# Altium footprint library PlateCutouts_OldMoney.PcbLib: 27 footprints (part 3 of 3)
Each footprint in its own frame and in the unit in brackets; x right, y up, seen from the top. Pads: shape width x height; smd on the part's side, far side on the other; paste and mask are expansions set on the pad; w line width, h text height; cw(c..) or ccw(c..) is an arc to the next point about the centre after c.
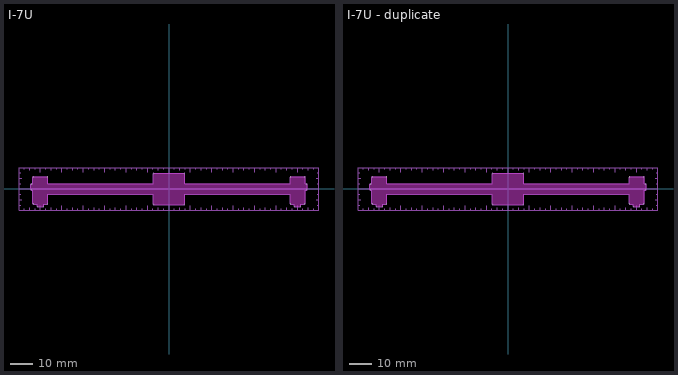
[diagram p2: the footprints below, top view; thin cyan lines are the x and y axes]

## I-7U [mm] "Imperial Sizing"
pads (20):
  round 0.1 hole 0.4 unplated: 27(-61.175,-0.295) 27(-61.17,2.1) 27(-60.275,-6.565) 27(-60.27,5.33) 27(-58.45,-7.765) 27(-55.855,-7.77) 27(-54.03,-6.57) 27(-54.025,5.325) 27(-6.8,-6.795) 27(-6.795,6.8) 27(6.795,6.8) 27(6.8,-6.795) 27(54.025,5.325) 27(54.03,-6.57) 27(55.855,-7.77) 27(58.45,-7.765) 27(60.27,5.33) 27(60.275,-6.565) 27(61.17,2.1) 27(61.175,-0.295)
Keep-Out Layer:
  drawing of 1 lines, arcs and shapes, not listed
Board Outline:
  lines w0.1: -61.375,-0.3 ccw(c-61.175,-0.3) -61.175,-0.5 -60.475,-0.5 -60.475,-6.57 ccw(c-60.275,-6.57) -60.275,-6.77 -58.65,-6.77 -58.65,-7.77 ccw(c-58.45,-7.77) -58.45,-7.97 -55.85,-7.97 ccw(c-55.85,-7.77) -55.65,-7.77 -55.65,-6.77 -54.025,-6.77 ccw(c-54.025,-6.57) -53.825,-6.57 -53.825,-2.3 -7,-2.3 -7,-6.8 ccw(c-6.8,-6.8) -6.8,-7 6.8,-7 ccw(c6.8,-6.8) 7,-6.8 7,-2.3 53.825,-2.3 53.825,-6.57 ccw(c54.025,-6.57) 54.025,-6.77 55.65,-6.77 55.65,-7.77 ccw(c55.85,-7.77) 55.85,-7.97 58.45,-7.97 ccw(c58.45,-7.77) 58.65,-7.77 58.65,-6.77 60.275,-6.77 ccw(c60.275,-6.57) 60.475,-6.57 60.475,-0.5 61.175,-0.5 ccw(c61.175,-0.3) 61.375,-0.3 61.375,2.1 ccw(c61.175,2.1) 61.175,2.3 60.475,2.3 60.475,5.33 ccw(c60.275,5.33) 60.275,5.53 54.025,5.53 ccw(c54.025,5.33) 53.825,5.33 53.825,2.3 7,2.3 7,6.8 ccw(c6.8,6.8) 6.8,7 -6.8,7 ccw(c-6.8,6.8) -7,6.8 -7,2.3 -53.825,2.3 -53.825,5.33 ccw(c-54.025,5.33) -54.025,5.53 -60.275,5.53 ccw(c-60.275,5.33) -60.475,5.33 -60.475,2.3 -61.175,2.3 ccw(c-61.175,2.1) -61.375,2.1 -61.375,-0.3
  text "Cut Out" at -2.915,-6.117 h1
  text "Cut Out" at 6.009,-2.91 h1
  text "Cut Out" at 2.802,6.014 h1
  text "Cut Out" at -6.122,2.807 h1
Layout + Dimensions:
  lines w0.1: -66.675,-7.425 -66.675,2.375 ; -66.675,-7.144 -65.888,-7.144 ; -66.675,-4.763 -65.405,-4.763 ; -66.675,-2.381 -65.888,-2.381 ; -66.675,0 -0.375,0 ; -66.675,2.381 -65.888,2.381 ; -66.675,4.762 -65.405,4.762 ; -66.675,7.144 -65.888,7.144 ; -64.294,-9.525 -64.294,-8.738 ; -64.294,8.738 -64.294,9.525 ; -61.912,-9.525 -61.912,-8.255 ; -61.912,8.255 -61.912,9.525 ; -59.531,-9.525 -59.531,-8.738 ; -59.531,8.738 -59.531,9.525 ; -57.15,-9.5 -57.15,-7.5 ; -57.15,7.5 -57.15,9.5 ; -57.125,0 -55.125,0 ; -54.769,-9.525 -54.769,-8.738 ; -54.769,8.738 -54.769,9.525 ; -52.387,-9.525 -52.387,-8.255 ; -52.387,8.255 -52.387,9.525 ; -50.006,-9.525 -50.006,-8.738 ; -50.006,8.738 -50.006,9.525 ; -47.625,-9.5 -47.625,-7.5 ; -47.625,7.5 -47.625,9.5 ; -45.244,-9.525 -45.244,-8.738 ; -45.244,8.738 -45.244,9.525 ; -42.862,-9.525 -42.862,-8.255 ; -42.862,8.255 -42.862,9.525 ; -40.481,-9.525 -40.481,-8.738 ; -40.481,8.738 -40.481,9.525 ; -38.1,-7.525 -38.1,-9.525 ; -38.1,7.525 -38.1,9.525 ; -35.719,-9.525 -35.719,-8.738 ; -35.719,8.738 -35.719,9.525 ; -33.337,-9.525 -33.337,-8.255 ; -33.337,8.255 -33.337,9.525 ; -30.956,-9.525 -30.956,-8.738 ; -30.956,8.738 -30.956,9.525 ; -28.575,-9.5 -28.575,-7.5 ; -28.575,7.5 -28.575,9.5 ; -26.194,-9.525 -26.194,-8.738 ; -26.194,8.738 -26.194,9.525 ; -23.812,-9.525 -23.812,-8.255 ; -23.812,8.255 -23.812,9.525 ; -21.431,-9.525 -21.431,-8.738 ; -21.431,8.738 -21.431,9.525 ; -19.05,-7.525 -19.05,-9.525 ; -19.05,7.525 -19.05,9.525 ; -16.669,-9.525 -16.669,-8.738 ; -16.669,8.738 -16.669,9.525 ; -14.287,-9.525 -14.287,-8.255 ; -14.287,8.255 -14.287,9.525 ; -11.906,-9.525 -11.906,-8.738 ; -11.906,8.738 -11.906,9.525 ; -9.525,-9.5 -9.525,-7.5 ; -9.525,7.5 -9.525,9.525 ; -7.144,-9.525 -7.144,-8.738 ; -7.144,8.738 -7.144,9.525 ; -4.763,-9.525 -4.763,-8.255 ; -4.763,8.255 -4.763,9.525 ; -2.381,-9.525 -2.381,-8.738 ; -2.381,8.738 -2.381,9.525 ; 0,-7.25 0,-9.525 ; 0,7.25 0,9.525 ; 0.375,0 66.675,0 ; 2.381,-9.525 2.381,-8.738 ; 2.381,8.738 2.381,9.525 ; 4.763,-9.525 4.763,-8.255 ; 4.763,8.255 4.763,9.525 ; 7.144,-9.525 7.144,-8.738 ; 7.144,8.738 7.144,9.525 ; 9.525,-9.5 9.525,-7.5 ; 9.525,7.5 9.525,9.525 ; 11.906,-9.525 11.906,-8.738 ; 11.906,8.738 11.906,9.525 ; 14.287,-9.525 14.287,-8.255 ; 14.287,8.255 14.287,9.525 ; 16.669,-9.525 16.669,-8.738 ; 16.669,8.738 16.669,9.525 ; 19.05,-7.525 19.05,-9.525 ; 19.05,7.525 19.05,9.525 ; 21.431,-9.525 21.431,-8.738 ; 21.431,8.738 21.431,9.525 ; 23.812,-9.525 23.812,-8.255 ; 23.812,8.255 23.812,9.525 ; 26.194,-9.525 26.194,-8.738 ; 26.194,8.738 26.194,9.525 ; 28.575,-9.5 28.575,-7.5 ; 28.575,7.5 28.575,9.5 ; 30.956,-9.525 30.956,-8.738 ; 30.956,8.738 30.956,9.525 ; 33.337,-9.525 33.337,-8.255 ; 33.337,8.255 33.337,9.525 ; 35.719,-9.525 35.719,-8.738 ; 35.719,8.738 35.719,9.525 ; 38.1,-7.525 38.1,-9.525 ; 38.1,7.525 38.1,9.525 ; 40.481,-9.525 40.481,-8.738 ; 40.481,8.738 40.481,9.525 ; 42.862,-9.525 42.862,-8.255 ; 42.862,8.255 42.862,9.525 ; 45.244,-9.525 45.244,-8.738 ; 45.244,8.738 45.244,9.525 ; 47.625,-9.5 47.625,-7.5 ; 47.625,7.5 47.625,9.5 ; 50.006,-9.525 50.006,-8.738 ; 50.006,8.738 50.006,9.525 ; 52.387,-9.525 52.387,-8.255 ; 52.387,8.255 52.387,9.525 ; 54.769,-9.525 54.769,-8.738 ; 54.769,8.738 54.769,9.525 ; 55.125,0 57.125,0 ; 57.15,-9.5 57.15,-7.5 ; 57.15,7.5 57.15,9.5 ; 59.531,-9.525 59.531,-8.738 ; 59.531,8.738 59.531,9.525 ; 61.912,-9.525 61.912,-8.255 ; 61.912,8.255 61.912,9.525 ; 64.294,-9.525 64.294,-8.738 ; 64.294,8.738 64.294,9.525 ; 65.405,-4.763 66.675,-4.763 ; 65.405,4.762 66.675,4.762 ; 65.888,-7.144 66.675,-7.144 ; 65.888,-2.381 66.675,-2.381 ; 65.888,2.381 66.675,2.381 ; 65.888,7.144 66.675,7.144 ; 66.675,-2.375 66.675,7.425 ; 66.675,7.5 66.675,9.525 ; -38.1,-9.525 -19.05,-9.525 ; -38.1,-9.525 -66.675,-9.525 -66.675,9.525 -38.1,9.525 ; -38.1,9.525 -19.05,9.525 ; -19.05,-9.525 0,-9.525 ; -19.05,9.525 0,9.525 ; 0,-9.525 19.05,-9.525 ; 0,9.525 19.05,9.525 ; 19.05,-9.525 38.1,-9.525 ; 19.05,9.525 38.1,9.525 ; 38.1,-9.525 66.675,-9.525 66.675,9.525 ; 38.1,9.525 66.675,9.525

## I-7U - duplicate [mm] "Imperial Sizing"
pads (20):
  round 0.1 hole 0.4 unplated: 27(-61.175,-0.295) 27(-61.17,2.1) 27(-60.275,-6.565) 27(-60.27,5.33) 27(-58.45,-7.765) 27(-55.855,-7.77) 27(-54.03,-6.57) 27(-54.025,5.325) 27(-6.8,-6.795) 27(-6.795,6.8) 27(6.795,6.8) 27(6.8,-6.795) 27(54.025,5.325) 27(54.03,-6.57) 27(55.855,-7.77) 27(58.45,-7.765) 27(60.27,5.33) 27(60.275,-6.565) 27(61.17,2.1) 27(61.175,-0.295)
Keep-Out Layer:
  drawing of 1 lines, arcs and shapes, not listed
Board Outline:
  lines w0.1: -61.375,-0.3 ccw(c-61.175,-0.3) -61.175,-0.5 -60.475,-0.5 -60.475,-6.57 ccw(c-60.275,-6.57) -60.275,-6.77 -58.65,-6.77 -58.65,-7.77 ccw(c-58.45,-7.77) -58.45,-7.97 -55.85,-7.97 ccw(c-55.85,-7.77) -55.65,-7.77 -55.65,-6.77 -54.025,-6.77 ccw(c-54.025,-6.57) -53.825,-6.57 -53.825,-2.3 -7,-2.3 -7,-6.8 ccw(c-6.8,-6.8) -6.8,-7 6.8,-7 ccw(c6.8,-6.8) 7,-6.8 7,-2.3 53.825,-2.3 53.825,-6.57 ccw(c54.025,-6.57) 54.025,-6.77 55.65,-6.77 55.65,-7.77 ccw(c55.85,-7.77) 55.85,-7.97 58.45,-7.97 ccw(c58.45,-7.77) 58.65,-7.77 58.65,-6.77 60.275,-6.77 ccw(c60.275,-6.57) 60.475,-6.57 60.475,-0.5 61.175,-0.5 ccw(c61.175,-0.3) 61.375,-0.3 61.375,2.1 ccw(c61.175,2.1) 61.175,2.3 60.475,2.3 60.475,5.33 ccw(c60.275,5.33) 60.275,5.53 54.025,5.53 ccw(c54.025,5.33) 53.825,5.33 53.825,2.3 7,2.3 7,6.8 ccw(c6.8,6.8) 6.8,7 -6.8,7 ccw(c-6.8,6.8) -7,6.8 -7,2.3 -53.825,2.3 -53.825,5.33 ccw(c-54.025,5.33) -54.025,5.53 -60.275,5.53 ccw(c-60.275,5.33) -60.475,5.33 -60.475,2.3 -61.175,2.3 ccw(c-61.175,2.1) -61.375,2.1 -61.375,-0.3
  text "Cut Out" at -2.915,-6.117 h1
  text "Cut Out" at 6.009,-2.91 h1
  text "Cut Out" at 2.802,6.014 h1
  text "Cut Out" at -6.122,2.807 h1
Layout + Dimensions:
  lines w0.1: -66.675,-7.425 -66.675,2.375 ; -66.675,-7.144 -65.888,-7.144 ; -66.675,-4.763 -65.405,-4.763 ; -66.675,-2.381 -65.888,-2.381 ; -66.675,0 -0.375,0 ; -66.675,2.381 -65.888,2.381 ; -66.675,4.762 -65.405,4.762 ; -66.675,7.144 -65.888,7.144 ; -64.294,-9.525 -64.294,-8.738 ; -64.294,8.738 -64.294,9.525 ; -61.912,-9.525 -61.912,-8.255 ; -61.912,8.255 -61.912,9.525 ; -59.531,-9.525 -59.531,-8.738 ; -59.531,8.738 -59.531,9.525 ; -57.15,-9.5 -57.15,-7.5 ; -57.15,7.5 -57.15,9.5 ; -57.125,0 -55.125,0 ; -54.769,-9.525 -54.769,-8.738 ; -54.769,8.738 -54.769,9.525 ; -52.387,-9.525 -52.387,-8.255 ; -52.387,8.255 -52.387,9.525 ; -50.006,-9.525 -50.006,-8.738 ; -50.006,8.738 -50.006,9.525 ; -47.625,-9.5 -47.625,-7.5 ; -47.625,7.5 -47.625,9.5 ; -45.244,-9.525 -45.244,-8.738 ; -45.244,8.738 -45.244,9.525 ; -42.862,-9.525 -42.862,-8.255 ; -42.862,8.255 -42.862,9.525 ; -40.481,-9.525 -40.481,-8.738 ; -40.481,8.738 -40.481,9.525 ; -38.1,-7.525 -38.1,-9.525 ; -38.1,7.525 -38.1,9.525 ; -35.719,-9.525 -35.719,-8.738 ; -35.719,8.738 -35.719,9.525 ; -33.337,-9.525 -33.337,-8.255 ; -33.337,8.255 -33.337,9.525 ; -30.956,-9.525 -30.956,-8.738 ; -30.956,8.738 -30.956,9.525 ; -28.575,-9.5 -28.575,-7.5 ; -28.575,7.5 -28.575,9.5 ; -26.194,-9.525 -26.194,-8.738 ; -26.194,8.738 -26.194,9.525 ; -23.812,-9.525 -23.812,-8.255 ; -23.812,8.255 -23.812,9.525 ; -21.431,-9.525 -21.431,-8.738 ; -21.431,8.738 -21.431,9.525 ; -19.05,-7.525 -19.05,-9.525 ; -19.05,7.525 -19.05,9.525 ; -16.669,-9.525 -16.669,-8.738 ; -16.669,8.738 -16.669,9.525 ; -14.287,-9.525 -14.287,-8.255 ; -14.287,8.255 -14.287,9.525 ; -11.906,-9.525 -11.906,-8.738 ; -11.906,8.738 -11.906,9.525 ; -9.525,-9.5 -9.525,-7.5 ; -9.525,7.5 -9.525,9.525 ; -7.144,-9.525 -7.144,-8.738 ; -7.144,8.738 -7.144,9.525 ; -4.763,-9.525 -4.763,-8.255 ; -4.763,8.255 -4.763,9.525 ; -2.381,-9.525 -2.381,-8.738 ; -2.381,8.738 -2.381,9.525 ; 0,-7.25 0,-9.525 ; 0,7.25 0,9.525 ; 0.375,0 66.675,0 ; 2.381,-9.525 2.381,-8.738 ; 2.381,8.738 2.381,9.525 ; 4.763,-9.525 4.763,-8.255 ; 4.763,8.255 4.763,9.525 ; 7.144,-9.525 7.144,-8.738 ; 7.144,8.738 7.144,9.525 ; 9.525,-9.5 9.525,-7.5 ; 9.525,7.5 9.525,9.525 ; 11.906,-9.525 11.906,-8.738 ; 11.906,8.738 11.906,9.525 ; 14.287,-9.525 14.287,-8.255 ; 14.287,8.255 14.287,9.525 ; 16.669,-9.525 16.669,-8.738 ; 16.669,8.738 16.669,9.525 ; 19.05,-7.525 19.05,-9.525 ; 19.05,7.525 19.05,9.525 ; 21.431,-9.525 21.431,-8.738 ; 21.431,8.738 21.431,9.525 ; 23.812,-9.525 23.812,-8.255 ; 23.812,8.255 23.812,9.525 ; 26.194,-9.525 26.194,-8.738 ; 26.194,8.738 26.194,9.525 ; 28.575,-9.5 28.575,-7.5 ; 28.575,7.5 28.575,9.5 ; 30.956,-9.525 30.956,-8.738 ; 30.956,8.738 30.956,9.525 ; 33.337,-9.525 33.337,-8.255 ; 33.337,8.255 33.337,9.525 ; 35.719,-9.525 35.719,-8.738 ; 35.719,8.738 35.719,9.525 ; 38.1,-7.525 38.1,-9.525 ; 38.1,7.525 38.1,9.525 ; 40.481,-9.525 40.481,-8.738 ; 40.481,8.738 40.481,9.525 ; 42.862,-9.525 42.862,-8.255 ; 42.862,8.255 42.862,9.525 ; 45.244,-9.525 45.244,-8.738 ; 45.244,8.738 45.244,9.525 ; 47.625,-9.5 47.625,-7.5 ; 47.625,7.5 47.625,9.5 ; 50.006,-9.525 50.006,-8.738 ; 50.006,8.738 50.006,9.525 ; 52.387,-9.525 52.387,-8.255 ; 52.387,8.255 52.387,9.525 ; 54.769,-9.525 54.769,-8.738 ; 54.769,8.738 54.769,9.525 ; 55.125,0 57.125,0 ; 57.15,-9.5 57.15,-7.5 ; 57.15,7.5 57.15,9.5 ; 59.531,-9.525 59.531,-8.738 ; 59.531,8.738 59.531,9.525 ; 61.912,-9.525 61.912,-8.255 ; 61.912,8.255 61.912,9.525 ; 64.294,-9.525 64.294,-8.738 ; 64.294,8.738 64.294,9.525 ; 65.405,-4.763 66.675,-4.763 ; 65.405,4.762 66.675,4.762 ; 65.888,-7.144 66.675,-7.144 ; 65.888,-2.381 66.675,-2.381 ; 65.888,2.381 66.675,2.381 ; 65.888,7.144 66.675,7.144 ; 66.675,-2.375 66.675,7.425 ; 66.675,7.5 66.675,9.525 ; -38.1,-9.525 -19.05,-9.525 ; -38.1,-9.525 -66.675,-9.525 -66.675,9.525 -38.1,9.525 ; -38.1,9.525 -19.05,9.525 ; -19.05,-9.525 0,-9.525 ; -19.05,9.525 0,9.525 ; 0,-9.525 19.05,-9.525 ; 0,9.525 19.05,9.525 ; 19.05,-9.525 38.1,-9.525 ; 19.05,9.525 38.1,9.525 ; 38.1,-9.525 66.675,-9.525 66.675,9.525 ; 38.1,9.525 66.675,9.525